# EAGLE library part B20B-PUDSS-1 (library con-jst-pud)
JST connector, PUD series, 2.0mm spacing, crimp style, wire-to-board, 20 pin, top entry (with boss)
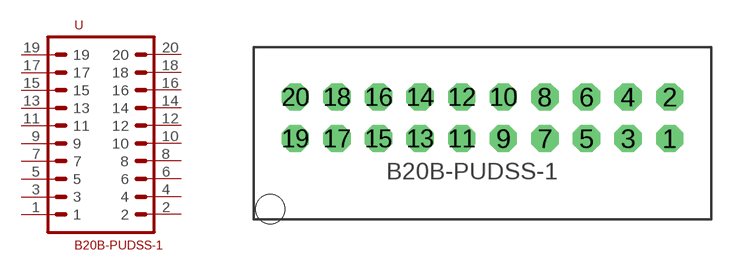
[diagram p14: symbol with the pads of PUD_20_PIN_TOP_ENTRY; footprint PUD_20_PIN_TOP_ENTRY]

Designator prefix -

## B20B-PUDSS-1 (DIGIKEY: 455-2505-ND; MF: JST; MPN: B20B-PUDSS-1)  [PUD_20_PIN_TOP_ENTRY]
1  1
2  2
3  3
4  4
5  5
6  6
7  7
8  8
9  9
10  10
11  11
12  12
13  13
14  14
15  15
16  16
17  17
18  18
19  19
20  20

## Footprint PUD_20_PIN_TOP_ENTRY (pad centres in mm)
drill 0.8 octagon: 1 9,0; 2 9,2; 3 7,0; 4 7,2; 5 5,0; 6 5,2; 7 3,0; 8 3,2; 9 1,0; 10 1,2; 11 -1,0; 12 -1,2; 13 -3,0; 14 -3,2; 15 -5,0; 16 -5,2; 17 -7,0; 18 -7,2; 19 -9,0; 20 -9,2
hole 1.4 at -10.2,-3.4